# Altium footprint library Teensy3_5.PcbLib: 1 footprints
Each footprint in its own frame and in the unit in brackets; x right, y up, seen from the top. Pads: shape width x height; smd on the part's side, far side on the other; paste and mask are expansions set on the pad; w line width, h text height; cw(c..) or ccw(c..) is an arc to the next point about the centre after c.
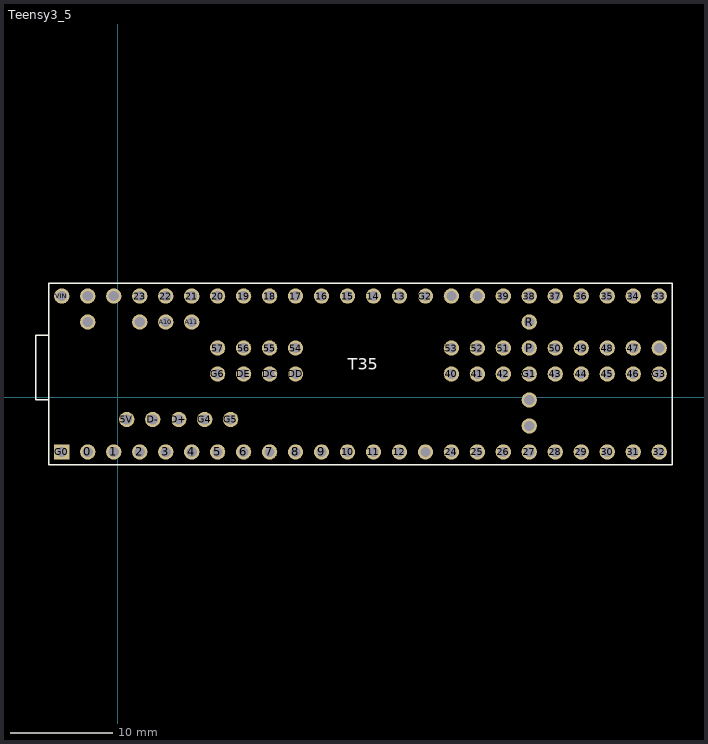
[diagram p0: the footprint, top view; thin cyan lines are the x and y axes]

## Teensy3_5 [mm]
pads (86):
  round 1.5 hole 1: 0(-2.921,-5.334) 1(-0.381,-5.334) 2(2.159,-5.334) 3(4.699,-5.334) 3V3(1)(30.099,-5.334) 3V3(2)(40.259,-0.254) 3V3(3)(-0.381,9.906) 3V3(4)(52.959,4.826) 4(7.239,-5.334) 5(9.779,-5.334) 5V(0.889,-2.159) 6(12.319,-5.334) 7(14.859,-5.334) 8(17.399,-5.334) 9(19.939,-5.334) 10(22.479,-5.334) 11(25.019,-5.334) 12(27.559,-5.334) 13(27.559,9.906) 14(25.019,9.906) 15(22.479,9.906) 16(19.939,9.906) 17(17.399,9.906) 18(14.859,9.906) 19(12.319,9.906) 20(9.779,9.906) 21(7.239,9.906) 22(4.699,9.906) 23(2.159,9.906) 24(32.639,-5.334) 25(35.179,-5.334) 26(37.719,-5.334) 27(40.259,-5.334) 28(42.799,-5.334) 29(45.339,-5.334) 30(47.879,-5.334) 31(50.419,-5.334) 32(52.959,-5.334) 33(52.959,9.906) 34(50.419,9.906) 35(47.879,9.906) 36(45.339,9.906) 37(42.799,9.906) 38(40.259,9.906) 39(37.719,9.906) 40(32.639,2.286) 41(35.179,2.286) 42(37.719,2.286) 43(42.799,2.286) 44(45.339,2.286) 45(47.879,2.286) 46(50.419,2.286) 47(50.419,4.826) 48(47.879,4.826) 49(45.339,4.826) 50(42.799,4.826) 51(37.719,4.826) 52(35.179,4.826) 53(32.639,4.826) 54(17.399,4.826) 55(14.859,4.826) 56(12.319,4.826) 57(9.779,4.826) A10(4.699,7.366) A11(7.239,7.366) AGND(-2.921,9.906) AREF(2.159,7.366) D+(5.969,-2.159) D-(3.429,-2.159) DAC0(35.179,9.906) DAC1(32.639,9.906) DC(14.859,2.286) DD(17.399,2.286) DE(12.319,2.286) G1(40.259,2.286) G2(30.099,9.906) G3(52.959,2.286) G4(8.509,-2.159) G5(11.049,-2.159) G6(9.779,2.286) P(40.259,4.826) R(40.259,7.366) VBAT(40.259,-2.794) VIN(-5.461,9.906) VUSB(-2.921,7.366)
  rect 1.5x1.5 hole 1: G0(-5.461,-5.334)
Top Overlay:
  lines w0.127: -6.731,-0.254 -8.001,-0.254 -8.001,6.096 -6.731,6.096 ; -6.731,-0.254 -6.731,-6.604 54.229,-6.604 54.229,11.176 -6.731,11.176 -6.731,6.096 ; -6.731,-0.254 -6.731,6.096
  text "T35" at 22.479,2.286 h1.97